# EAGLE library part NJG1130KA1 (library X893)
http://www.chuo.co.il/admin/upload/NJG1130KA1.pdf
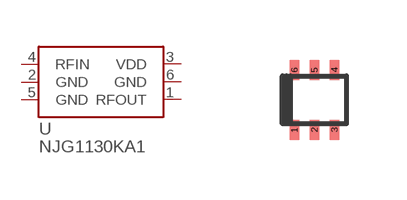
[diagram p108: symbol with the pads of FLP6; footprint FLP6]

Designator prefix U

## NJG1130KA1  [FLP6]
1  RFOUT  pas
2  GND  pas
3  VDD  pas
4  RFIN  pas
5  GND  pas
6  GND  pas

## Footprint FLP6 (pad centres in mm)
http://www.chuo.co.il/admin/upload/NJG1130KA1.pdf
smd 0.24 x 0.5: 1 -0.5,-0.75; 2 0,-0.75; 3 0.5,-0.75; 4 0.5,0.75; 5 0,0.75; 6 -0.5,0.75